# EAGLE library part POT_STEREO (library bao09)
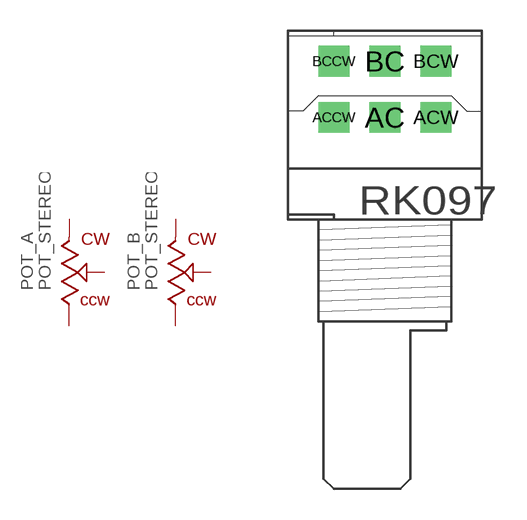
[diagram p5: symbol with the pads of POT_ALPS_RK097_ST_CENTERED; footprint POT_ALPS_RK097_ST_CENTERED]

Designator prefix POT; gates _A=POT _B=POT

## POT_STEREOHORIZ  [POT_ALPS_RK097_ST_CENTERED]
AC  _A:C  pas
ACCW  _A:CCW  pas
ACW  _A:CW  pas
BC  _B:C  pas
BCCW  _B:CCW  pas
BCW  _B:CW  pas

## Footprint POT_ALPS_RK097_ST_CENTERED (pad centres in mm)
drill 1 pad 1.422 square: AC 0,5.02; ACCW -2.5,5.02; ACW 2.5,5.02; BC 0,7.77; BCCW -2.5,7.77; BCW 2.5,7.77